# Altium footprint library LCD1602_PCB.PcbLib: 1 footprints
Each footprint in its own frame and in the unit in brackets; x right, y up, seen from the top. Pads: shape width x height; smd on the part's side, far side on the other; paste and mask are expansions set on the pad; w line width, h text height; cw(c..) or ccw(c..) is an arc to the next point about the centre after c.
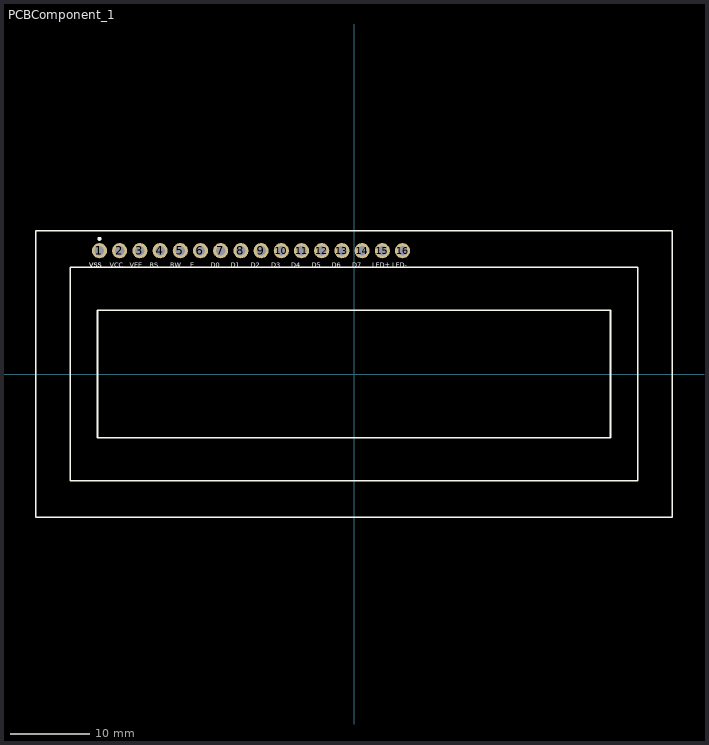
[diagram p0: the footprint, top view; thin cyan lines are the x and y axes]

## PCBComponent_1 [mm]
pads (16):
  round 1.9 hole 1.2: 1(-32,15.5) 2(-29.46,15.5) 3(-26.92,15.5) 4(-24.38,15.5) 5(-21.84,15.5) 6(-19.3,15.5) 7(-16.76,15.5) 8(-14.22,15.5) 9(-11.68,15.5) 10(-9.14,15.5) 11(-6.6,15.5) 12(-4.06,15.5) 13(-1.52,15.5) 14(1.02,15.5) 15(3.56,15.5) 16(6.1,15.5)
Top Overlay:
  circle w0.3: c-32,17 r0.1
  lines w0.2: -40,-18 -40,18 40,18 40,-18 -40,-18 ; -35.65,-13.4 -35.65,13.4 35.65,13.4 35.65,-13.4 -35.65,-13.4 ; -32.25,-8 32.25,-8 32.25,8 -32.25,8 -32.25,0 -32.25,-8
  text "LED-" at 4.83,13.45 h0.6
  text "LED+" at 2.29,13.45 h0.6
  text "D7" at -0.25,13.45 h0.6
  text "D6" at -2.79,13.45 h0.6
  text "D5" at -5.33,13.45 h0.6
  text "D4" at -7.87,13.45 h0.6
  text "D3" at -10.41,13.45 h0.6
  text "D2" at -12.95,13.45 h0.6
  text "D1" at -15.49,13.45 h0.6
  text "D0" at -18.03,13.45 h0.6
  text "E" at -20.57,13.45 h0.6
  text "RW" at -23.11,13.45 h0.6
  text "RS" at -25.65,13.45 h0.6
  text "VEE" at -28.19,13.45 h0.6
  text "VCC" at -30.73,13.45 h0.6
  text "VSS" at -33.27,13.45 h0.6
  text "VSS" at -33.27,13.45 h0.6
3D body "LCD.STEP": height 19.56, standoff -3.45, extent -40,-18 40,18